# Altium schematic symbol library LTST-C190KRKT.SchLib: 1 symbol
Pins are listed as number, name and electrical type; pins without a type are passive.

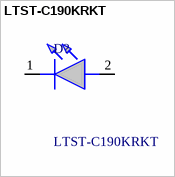
[diagram p0: symbol LTST-C190KRKT]

## LTST-C190KRKT
designator D?
LED,SMD,0603,Red,54mcd,130deg Lite-On LTST-C190KRKT Red LED, 631 nm, 1608 (0603), Rectangle Lens SMD Package; Geometry.Height: 0.8mm; Mouser Part Number: 859-LTST-C190KRKT; Mouser Price/Stock: https://www.mouser.co.uk/ProductDetail/LITEON/LTST-C190KRKT?qs=kAD5fFa1n5VY3YYNWPC1Fg%3D%3D; Manufacturer_Name: Lite-On; Manufacturer_Part_Number: LTST-C190KRKT; Datasheet Link: https://componentsearchengine.com/Datasheets/1/LTST-C190KRKT.pdf
footprint LEDC1608X80N
pins: 1 K, 2 A